# Altium schematic symbol library SCH - INTERFACE - CAN - Infineon TLE9263QX.Schlib: 1 symbol
Pins are listed as number, name and electrical type; pins without a type are passive.

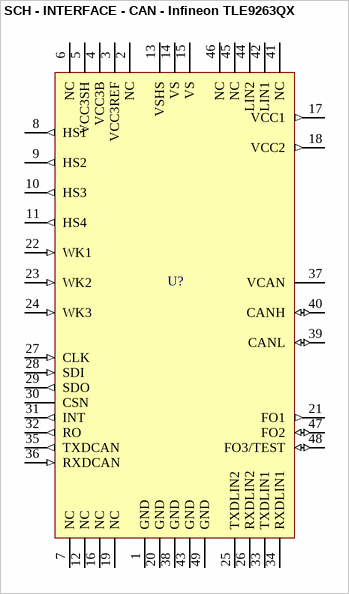
[diagram p0: symbol SCH - INTERFACE - CAN - Infineon TLE9263QX]

## SCH - INTERFACE - CAN - Infineon TLE9263QX
designator U?
footprint INF-VQFN-48-29_L (QFN, 48-Leads, Body 7x7mm, Pitch 0.5mm, Thermal Pad 5.2x5.2mm, IPC High Density)
footprint INF-VQFN-48-29_M (QFN, 48-Leads, Body 7x7mm, Pitch 0.5mm, Thermal Pad 5.2x5.2mm, IPC Low Density)
footprint INF-VQFN-48-29_N (QFN, 48-Leads, Body 7x7mm, Pitch 0.5mm, Thermal Pad 5.2x5.2mm, IPC Medium Density)
pins: 1 GND (power) "Ground", 2 NC "not connected; internally not bonded", 3 VCC3REF "Not Used; Used for internal testing purpose, Do not connect, leave open", 4 VCC3B "Not Used; Used for internal testing purpose, Do not connect, leave open", 5 VCC3SH "Not Used; Used for internal testing purpose, Do not connect, leave open", 6 NC "not connected; internally not bonded", 7 NC "not connected; internally not bonded", 8 HS1 (out) "High Side Output 1; typ 7R", 9 HS2 (out) "High Side Output 2; typ. 7R", 10 HS3 (out) "High Side Output 3; typ. 7R", 11 HS4 (out) "High Side Output 4; typ. 7R", 12 NC "not connected; internally not bonded", 13 VSHS (power) "Supply Voltage HS and GPIO1/2 in HS configuration; Supply voltage for High-  Side Switches modules and respective UV-/OV supervision; Connected to  battery voltage with reverse protection diode and filter against EMC; connect  to VS if separate supply is not needed", 14 VS (power) "Supply Voltage; Supply voltage for chip internal supply and voltage  regulators; Connected to Battery Voltage with external reverse protection  Diode and Filter against EMC", 15 VS (power) "Supply Voltage; Supply voltage for chip internal supply and voltage  regulators; Connected to Battery Voltage with external reverse protection  Diode and Filter against EMC", 16 NC "not connected; internally not bonded", 17 VCC1 (out) "Voltage Regulator Output 1", 18 VCC2 (out) "Voltage Regulator Output 2", 19 NC "not connected; internally not bonded", 20 GND (power) "Ground", 21 FO1 (out) "Fail Output 1", 22 WK1 (in) "Wake Input 1; Alternative function: HV-measurement function input pin  (only in combination with WK2", 23 WK2 (in) "Wake Input 1; Alternative function: HV-measurement function input pin  (only in combination with WK1", 24 WK3 (in) "Wake Input 3", 25 TXDLIN2 "Not Used; Used for internal testing purpose. Do not connect, leave open", 26 RXDLIN2 "Not Used; Used for internal testing purpose. Do not connect, leave open", 27 CLK (in) "SPI Data Input, into SBC (= MOSI)", 28 SDI (in) "SPI Data Input; into SBC (=MOSI)", 29 SDO (out) "SPI Data Output; out of SBC (=MISO)", 30 CSN (oc) "SPI Chhip Select Not Input", 31 INT (out) "Interrupt Output; used as wake-up flag for microcontroller in SBC Stop or Normal  Mode and for indicating failures. Active low.  During start-up used to set the SBC configuration. External pull-up sets config 1/3,  no external pull-up sets config 2/4.", 32 RO (out) "Reset Output", 33 TXDLIN1 "Not Used; Used for internal testing purpose. Do not connect, leave open", 34 RXDLIN1 "Not Used; Used for internal testing purpose. Do not connect, leave open", 35 TXDCAN (out) "Transmit CAN", 36 RXDCAN (in) "Receive CAN", 37 VCAN (power) "Supply input; for internal HS-CAN cell", 38 GND (power) "Ground", 39 CANL (io) "CAN Low Bus Pin", 40 CANH (io) "CAN High Bus Pin", 41 NC "not connected; internally not bonded.", 42 LIN1 "Not Used; Used for internal testing purpose. Do not connect, leave open", 43 GND (power) "Ground", 44 LIN2 "Not Used; Used for internal testing purpose. Do not connect, leave open", 45 NC "not connected; internally not bonded", 46 NC "not connected; internally not bonded.", 47 FO2 (io) "Fail Output 2 - Side Indicator; Side indicators 1.25Hz 50% duty cycle output;  Open drain. Active LOW.  Alternative Function: GPIO1; configurable pin as WK, or LS, or HS supplied by  VSHS", 48 FO3/TEST (io) "Fail Output 3 - Pulsed Light Output; Break/rear light 100Hz 20% duty cycle output;  Open drain. Active LOW  TEST; Connect to GND to activate SBC Software Development Mode;  Integrated pull-up resistor. Connect to VS with pull-up resistor or leave open for  normal operation.  Alternative Function: GPIO2; configurable pin as WK, or LS, or HS supplied by  VSHS", 49 GND (power) "Cooling Tab - Exposed Die Pad; For cooling purposes only, do not use as an  electrical ground.1) 1) The exposed die pad at the bottom of the package allows better power dissipation of heat from the SBC via the PCB. The  exposed die pad is not connected to any active part of the IC an can be left floating or it can be connected to GND  (recommended) for the best EMC performance."